# Altium footprint library FS10-1200.PcbLib: 1 footprints
Each footprint in its own frame and in the unit in brackets; x right, y up, seen from the top. Pads: shape width x height; smd on the part's side, far side on the other; paste and mask are expansions set on the pad; w line width, h text height; cw(c..) or ccw(c..) is an arc to the next point about the centre after c.
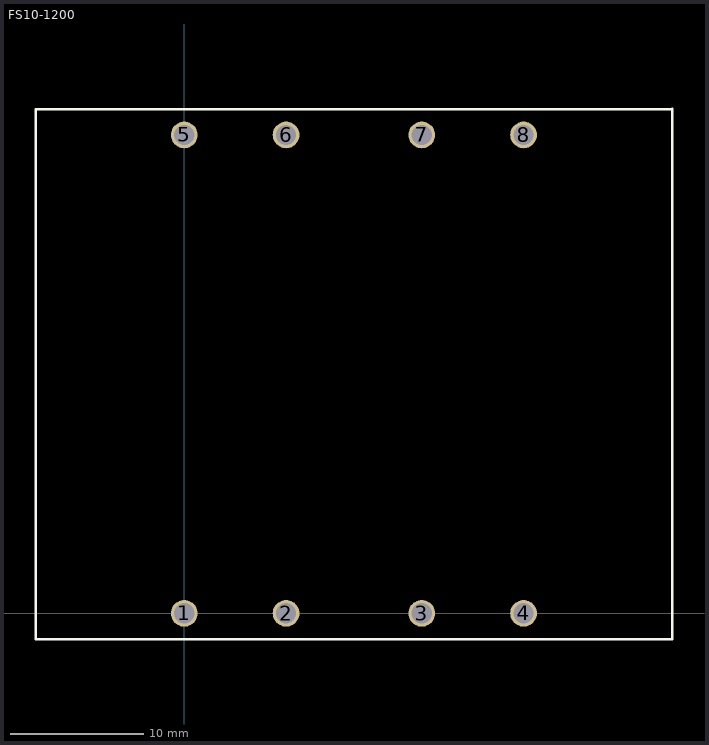
[diagram p0: the footprint, top view; thin cyan lines are the x and y axes]

## FS10-1200 [mm] "12W 230/115V Transformer"
pads (8):
  round 2 hole 1.524: 1(0,0) 2(7.62,0) 3(17.78,0) 4(25.4,0) 5(0,35.814) 6(7.62,35.814) 7(17.78,35.814) 8(25.4,35.814)
Top Overlay:
  lines w0.2: -11.112,37.745 -11.112,-1.93 36.525,-1.93 36.525,37.77 ; -11.1,37.744 36.525,37.744
3D body: height 36.5, standoff 0, extent -11.212,-2.03 36.625,37.87